# EAGLE library part TPA4861 (library TPA4861)
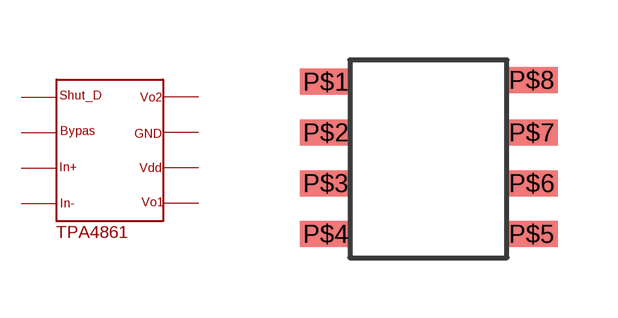
[diagram p0: symbol with the pads of SOIC8; footprint SOIC8]

Designator prefix -

## TPA4861  [SOIC8]
P$1  P$1
P$2  P$2
P$3  P$3
P$4  P$4
P$5  P$5
P$6  P$6
P$7  P$7
P$8  P$8

## Footprint SOIC8 (pad centres in mm)
smd 1.3 x 0.65: P$1 -0.6,4.405; P$2 -0.6,3.135; P$3 -0.6,1.865; P$4 -0.6,0.595; P$5 4.55,0.595; P$6 4.55,1.865; P$7 4.55,3.135; P$8 4.55,4.45